# EAGLE library part 61000613321 (library Board-to-Board (rev18a))
WR-PHD 2.54mm SMT Socket Header, 6 Pins=>Code : CON_BTB_SHD_2.54_1_SMT_61000613321 <http://katalog.we-online.de/media/images/eican/Con_BTB_SHD_2.54_1_SMT_6100xx11921_pf2.jpg> Details see: http://katalog.we-online.de/en/em/PHD_2_54_SMT_SOCKET_HEADER_6100XXXXX21 Created 2014-05-30, Karrer Zheng 2014 (C) Würth Elektronik
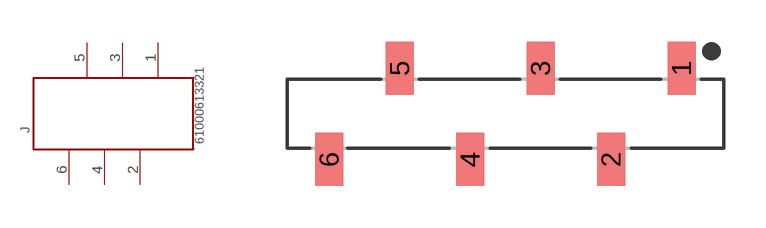
[diagram p193: symbol with the pads of 61000613321; footprint 61000613321]

Designator prefix J

## 61000613321  [61000613321]
1  6  pas
2  5  pas
3  4  pas
4  3  pas
5  2  pas
6  1  pas

## Footprint 61000613321 (pad centres in mm)
WR-PHD 2.54mm SMT Socket Header, 6 Pins
smd 1 x 1.91: 1 6.35,1.645; 2 3.81,-1.645; 3 1.27,1.645; 4 -1.27,-1.645; 5 -3.81,1.645; 6 -6.35,-1.645